# EAGLE library part XBEE_SMD_ADAPTER (library UBCSolar)
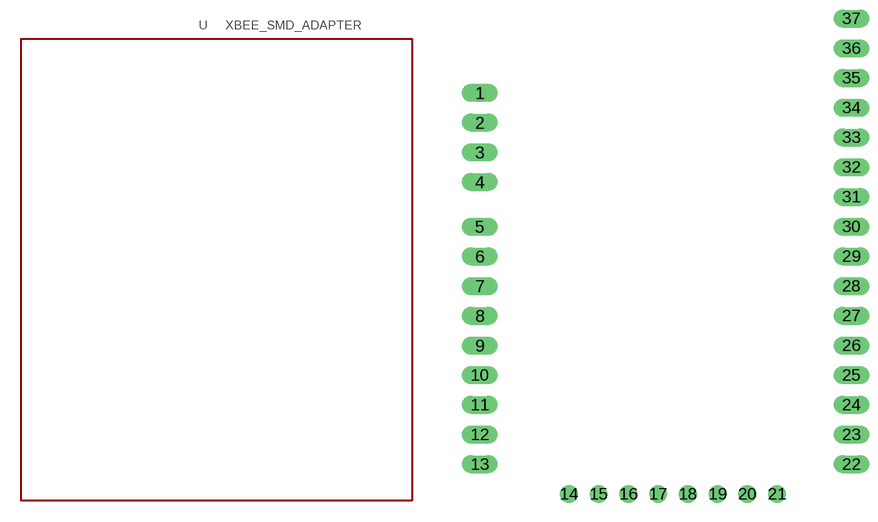
[diagram p25: symbol with the pads of XBEE_SMD_ADAPTER; footprint XBEE_SMD_ADAPTER]

Designator prefix -

## XBEE_SMD_ADAPTER  [XBEE_SMD_ADAPTER]
1  P$1
2  P$2
3  P$3
4  P$4
5  P$5
6  P$6
7  P$7
8  P$8
9  P$9
10  P$10
11  P$11
12  P$12
13  P$13
14  P$14
15  P$15
16  P$16
17  P$17
18  P$18
19  P$19
20  P$20
21  P$21
22  P$22
23  P$23
24  P$24
25  P$25
26  P$26
27  P$27
28  P$28
29  P$29
30  P$30
31  P$31
32  P$32
33  P$33
34  P$34
35  P$35
36  P$36
37  P$37

## Footprint XBEE_SMD_ADAPTER (pad centres in mm)
drill 1.02 long: 1 -16.51,12.7; 2 -16.51,10.16; 3 -16.51,7.62; 4 -16.51,5.08; 5 -16.51,1.27; 6 -16.51,-1.27; 7 -16.51,-3.81; 8 -16.51,-6.35; 9 -16.51,-8.89; 10 -16.51,-11.43; 11 -16.51,-13.97; 12 -16.51,-16.51; 13 -16.51,-19.05; 22 15.24,-19.05; 23 15.24,-16.51; 24 15.24,-13.97; 25 15.24,-11.43; 26 15.24,-8.89; 27 15.24,-6.35; 28 15.24,-3.81; 29 15.24,-1.27; 30 15.24,1.27; 31 15.24,3.81; 32 15.24,6.35; 33 15.24,8.89; 34 15.24,11.43; 35 15.24,13.97; 36 15.24,16.51; 37 15.24,19.05
drill 1.02: 14 -8.89,-21.59; 15 -6.35,-21.59; 16 -3.81,-21.59; 17 -1.27,-21.59; 18 1.27,-21.59; 19 3.81,-21.59; 20 6.35,-21.59; 21 8.89,-21.59